# Altium footprint library 2019-10-18_23-59-06.PcbLib: 3 footprints
Each footprint in its own frame and in the unit in brackets; x right, y up, seen from the top. Pads: shape width x height; smd on the part's side, far side on the other; paste and mask are expansions set on the pad; w line width, h text height; cw(c..) or ccw(c..) is an arc to the next point about the centre after c.
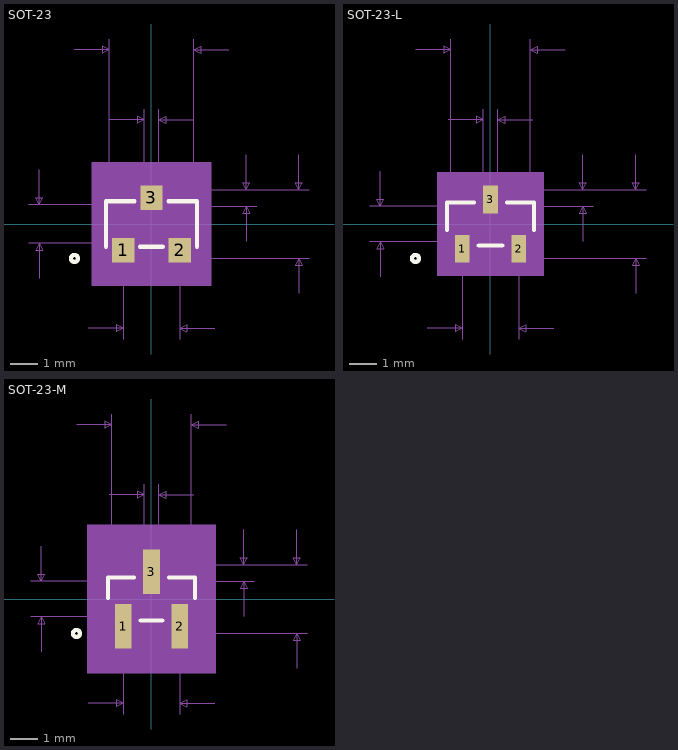
[diagram p0: the footprints below, top view; thin cyan lines are the x and y axes]

## SOT-23 [mil]
pads (3):
  rect 32x35 smd paste+0 mask+0: 1(-40.35,-37.2) 2(40.35,-37.2) 3(0,37.2)
Top Overlay:
  circle w6: c-110.04,-49.21 r5
  lines w6: -65.04,-32.56 -65.04,32.56 -24.14,32.56 ; -16.21,-32.56 16.21,-32.56 ; 24.14,32.56 65.04,32.56 65.04,-32.56
Mechanical 5:
  region: -85.04,88.21 85.04,88.21 85.04,-88.21 -85.04,-88.21
Mechanical 7:
  lines w1: -175.04,-27.56 0,-27.56 ; -175.04,27.56 0,27.56 ; -160.04,-77.56 -160.04,-27.56 ; -160.04,77.56 -160.04,27.56 ; -110.04,249.21 -60.04,249.21 ; -90.35,-149.21 -40.35,-149.21 ; -60.04,27.56 -60.04,264.21 ; -60.04,149.21 -10.04,149.21 ; -40.35,-164.21 -40.35,-49.21 ; -10.04,49.21 -10.04,164.21 ; 0,-49.21 225.04,-49.21 ; 0,25.2 150.04,25.2 ; 10.04,49.21 10.04,164.21 ; 40.35,-164.21 40.35,-49.21 ; 60.04,27.56 60.04,264.21 ; 60.04,149.21 10.04,149.21 ; 90.35,-149.21 40.35,-149.21 ; 110.04,249.21 60.04,249.21 ; 135.04,-24.8 135.04,25.2 ; 135.04,99.21 135.04,49.21 ; 150.04,49.21 0,49.21 225.04,49.21 ; 210.04,-99.21 210.04,-49.21 ; 210.04,99.21 210.04,49.21 ; -160.04,-27.56 -165.04,-37.56 -155.04,-37.56 -160.04,-27.56 ; -160.04,27.56 -165.04,37.56 -155.04,37.56 -160.04,27.56 ; -60.04,249.21 -70.04,254.21 -70.04,244.21 -60.04,249.21 ; -40.35,-149.21 -50.35,-144.21 -50.35,-154.21 -40.35,-149.21 ; -10.04,149.21 -20.04,154.21 -20.04,144.21 -10.04,149.21 ; 10.04,149.21 20.04,154.21 20.04,144.21 10.04,149.21 ; 40.35,-149.21 50.35,-144.21 50.35,-154.21 40.35,-149.21 ; 60.04,249.21 70.04,254.21 70.04,244.21 60.04,249.21 ; 135.04,25.2 130.04,15.2 140.04,15.2 135.04,25.2 ; 135.04,49.21 130.04,59.21 140.04,59.21 135.04,49.21 ; 210.04,-49.21 205.04,-59.21 215.04,-59.21 210.04,-49.21 ; 210.04,49.21 205.04,59.21 215.04,59.21 210.04,49.21
  text "Top Padstyle: RX22p08Y52p02D0T" at -375,-313.21 h50
  text "Bottom Padstyle: RX22p08Y52p02D0T" at -412.5,-388.21 h50
  text "Alt 1 Padstyle: RX32Y35D0T" at -325,-463.21 h50
  text "Alt 2 Padstyle: OX90Y60D30P" at -337.5,-538.21 h50
  text "0.098in/2.5mm" at 230.04,-12.5 h25
  text "0.024in/0.61mm" at 155.04,24.7 h25
  text "0.081in/2.05mm" at -87.5,-194.21 h25
  text "0.02in/0.51mm" at -81.25,169.21 h25
  text "0.12in/3.05mm" at -81.25,269.21 h25
  text "0.055in/1.4mm" at -342.54,-12.5 h25
Mechanical 13:
  circle w0: c-50.04,-17.56 r5
  lines w1: -60.04,-27.56 60.04,-27.56 60.04,27.56 -60.04,27.56 -60.04,-27.56 ; -50.39,-49.21 -50.39,-27.56 -30.32,-27.56 -30.32,-49.21 -50.39,-49.21 ; -10.04,27.56 10.04,27.56 10.04,49.21 -10.04,49.21 -10.04,27.56 ; 30.32,-49.21 30.32,-27.56 50.39,-27.56 50.39,-49.21 30.32,-49.21
Mechanical 15:
  region: -70.04,-37.56 -70.04,37.56 -20.04,37.56 -20.04,60 20,60 20.04,37.56 70.04,37.56 70.04,-37.56 60.39,-37.56 60.39,-60 -60.39,-60 -60.39,-37.56
  region: 60.04,-27.56 -60.04,-27.56 -60.04,27.56 60.04,27.56
  lines w6: -60.39,-60 -60.39,-37.56 -70.04,-37.56 -70.04,37.56 -20.04,37.56 -20,60 ; -60,-60 60,-60 ; -20.04,60 20.04,60 20.04,37.56 70.04,37.56 70.04,-37.56 60.39,-37.56 60.39,-60
3D body: height 10, standoff 0, extent 0,0 10,10

## SOT-23-L [mm]
pads (3):
  rect 0.53x1.01 smd paste+0 mask+0: 1(-1.025,-0.895) 2(1.025,-0.895) 3(0,0.895)
Top Overlay:
  circle w0.152: c-2.72,-1.25 r0.127
  lines w0.152: -1.577,-0.222 -1.577,0.777 -0.598,0.777 ; -0.427,-0.777 0.427,-0.777 ; 0.598,0.777 1.577,0.777 1.577,-0.222
Mechanical 5:
  region: -1.933,1.883 1.933,1.883 1.933,-1.883 -1.933,-1.883
Mechanical 7:
  lines w0.025: -4.371,-0.65 0,-0.65 ; -4.371,0.65 0,0.65 ; -3.99,-1.92 -3.99,-0.65 ; -3.99,1.92 -3.99,0.65 ; -2.72,6.33 -1.45,6.33 ; -2.295,-3.79 -1.025,-3.79 ; -1.525,3.79 -0.255,3.79 ; -1.45,0.65 -1.45,6.711 ; -1.025,-4.171 -1.025,-1.25 ; -0.255,1.25 -0.255,4.171 ; 0,-1.25 5.641,-1.25 ; 0,0.64 3.736,0.64 ; 0.255,1.25 0.255,4.171 ; 1.025,-4.171 1.025,-1.25 ; 1.45,0.65 1.45,6.711 ; 1.525,3.79 0.255,3.79 ; 2.295,-3.79 1.025,-3.79 ; 2.72,6.33 1.45,6.33 ; 3.355,-0.63 3.355,0.64 ; 3.355,2.52 3.355,1.25 ; 3.736,1.25 0,1.25 5.641,1.25 ; 5.26,-2.52 5.26,-1.25 ; 5.26,2.52 5.26,1.25 ; -3.99,-0.65 -4.117,-0.904 -3.863,-0.904 -3.99,-0.65 ; -3.99,0.65 -4.117,0.904 -3.863,0.904 -3.99,0.65 ; -1.45,6.33 -1.704,6.457 -1.704,6.203 -1.45,6.33 ; -1.025,-3.79 -1.279,-3.663 -1.279,-3.917 -1.025,-3.79 ; -0.255,3.79 -0.509,3.917 -0.509,3.663 -0.255,3.79 ; 0.255,3.79 0.509,3.917 0.509,3.663 0.255,3.79 ; 1.025,-3.79 1.279,-3.663 1.279,-3.917 1.025,-3.79 ; 1.45,6.33 1.704,6.457 1.704,6.203 1.45,6.33 ; 3.355,0.64 3.228,0.386 3.482,0.386 3.355,0.64 ; 3.355,1.25 3.228,1.504 3.482,1.504 3.355,1.25 ; 5.26,-1.25 5.133,-1.504 5.387,-1.504 5.26,-1.25 ; 5.26,1.25 5.133,1.504 5.387,1.504 5.26,1.25
  text "Top Padstyle: r53_101" at -6.667,-7.75 h1.27
  text "Bottom Padstyle: r53_101" at -7.62,-9.655 h1.27
  text "Alt 1 Padstyle: b152_229h76" at -8.572,-11.56 h1.27
  text "Alt 2 Padstyle: b229_152h76" at -8.572,-13.465 h1.27
  text "0.098in/2.5mm" at 5.768,-0.318 h0.64
  text "0.024in/0.61mm" at 3.863,0.627 h0.64
  text "0.081in/2.05mm" at -2.222,-4.933 h0.64
  text "0.02in/0.51mm" at -2.064,4.298 h0.64
  text "0.114in/2.9mm" at -2.064,6.838 h0.64
  text "0.051in/1.3mm" at -8.625,-0.318 h0.64
Mechanical 13:
  circle w0: c-1.196,-0.396 r0.127
  lines w0.025: -1.45,-0.65 1.45,-0.65 1.45,0.65 -1.45,0.65 -1.45,-0.65 ; -1.28,-1.25 -1.28,-0.65 -0.77,-0.65 -0.77,-1.25 -1.28,-1.25 ; -0.255,0.65 0.255,0.65 0.255,1.25 -0.255,1.25 -0.255,0.65 ; 0.77,-1.25 0.77,-0.65 1.28,-0.65 1.28,-1.25 0.77,-1.25
Mechanical 15:
  region: -1.552,-0.752 -1.552,0.752 -0.367,0.752 -0.367,1.502 0.367,1.502 0.367,0.752 1.552,0.752 1.552,-0.752 1.392,-0.752 1.392,-1.502 -1.392,-1.502 -1.392,-0.752
  region: 1.45,-0.65 -1.45,-0.65 -1.45,0.65 1.45,0.65
  lines w0.152: -1.552,-0.752 -1.552,0.752 -0.367,0.752 -0.367,1.502 0.367,1.502 0.367,0.752 1.552,0.752 1.552,-0.752 1.392,-0.752 1.392,-1.502 -1.392,-1.502 -1.392,-0.752 -1.552,-0.752
3D body: height 0.25, standoff 0, extent 0,0 0.254,0.254

## SOT-23-M [mm]
pads (3):
  rect 0.61x1.61 smd paste+0 mask+0: 1(-1.025,-0.995) 2(1.025,-0.995) 3(0,0.995)
Top Overlay:
  circle w0.152: c-2.72,-1.25 r0.127
  lines w0.152: -1.577,0.033 -1.577,0.777 -0.638,0.777 ; -0.387,-0.777 0.387,-0.777 ; 0.638,0.777 1.577,0.777 1.577,0.033
Mechanical 5:
  region: -2.339,2.689 2.339,2.689 2.339,-2.689 -2.339,-2.689
Mechanical 7:
  lines w0.025: -4.371,-0.65 0,-0.65 ; -4.371,0.65 0,0.65 ; -3.99,-1.92 -3.99,-0.65 ; -3.99,1.92 -3.99,0.65 ; -2.72,6.33 -1.45,6.33 ; -2.295,-3.79 -1.025,-3.79 ; -1.525,3.79 -0.255,3.79 ; -1.45,0.65 -1.45,6.711 ; -1.025,-4.171 -1.025,-1.25 ; -0.255,1.25 -0.255,4.171 ; 0,-1.25 5.641,-1.25 ; 0,0.64 3.736,0.64 ; 0.255,1.25 0.255,4.171 ; 1.025,-4.171 1.025,-1.25 ; 1.45,0.65 1.45,6.711 ; 1.525,3.79 0.255,3.79 ; 2.295,-3.79 1.025,-3.79 ; 2.72,6.33 1.45,6.33 ; 3.355,-0.63 3.355,0.64 ; 3.355,2.52 3.355,1.25 ; 3.736,1.25 0,1.25 5.641,1.25 ; 5.26,-2.52 5.26,-1.25 ; 5.26,2.52 5.26,1.25 ; -3.99,-0.65 -4.117,-0.904 -3.863,-0.904 -3.99,-0.65 ; -3.99,0.65 -4.117,0.904 -3.863,0.904 -3.99,0.65 ; -1.45,6.33 -1.704,6.457 -1.704,6.203 -1.45,6.33 ; -1.025,-3.79 -1.279,-3.663 -1.279,-3.917 -1.025,-3.79 ; -0.255,3.79 -0.509,3.917 -0.509,3.663 -0.255,3.79 ; 0.255,3.79 0.509,3.917 0.509,3.663 0.255,3.79 ; 1.025,-3.79 1.279,-3.663 1.279,-3.917 1.025,-3.79 ; 1.45,6.33 1.704,6.457 1.704,6.203 1.45,6.33 ; 3.355,0.64 3.228,0.386 3.482,0.386 3.355,0.64 ; 3.355,1.25 3.228,1.504 3.482,1.504 3.355,1.25 ; 5.26,-1.25 5.133,-1.504 5.387,-1.504 5.26,-1.25 ; 5.26,1.25 5.133,1.504 5.387,1.504 5.26,1.25
  text "Top Padstyle: r61_161" at -6.667,-8.15 h1.27
  text "Bottom Padstyle: r61_161" at -7.62,-10.055 h1.27
  text "Alt 1 Padstyle: b152_229h76" at -8.572,-11.96 h1.27
  text "Alt 2 Padstyle: b229_152h76" at -8.572,-13.865 h1.27
  text "0.098in/2.5mm" at 5.768,-0.318 h0.64
  text "0.024in/0.61mm" at 3.863,0.627 h0.64
  text "0.081in/2.05mm" at -2.222,-4.933 h0.64
  text "0.02in/0.51mm" at -2.064,4.298 h0.64
  text "0.114in/2.9mm" at -2.064,6.838 h0.64
  text "0.051in/1.3mm" at -8.625,-0.318 h0.64
Mechanical 13:
  circle w0: c-1.196,-0.396 r0.127
  lines w0.025: -1.45,-0.65 1.45,-0.65 1.45,0.65 -1.45,0.65 -1.45,-0.65 ; -1.28,-1.25 -1.28,-0.65 -0.77,-0.65 -0.77,-1.25 -1.28,-1.25 ; -0.255,0.65 0.255,0.65 0.255,1.25 -0.255,1.25 -0.255,0.65 ; 0.77,-1.25 0.77,-0.65 1.28,-0.65 1.28,-1.25 0.77,-1.25
Mechanical 15:
  region: -1.958,-1.158 -1.958,1.158 -0.813,1.158 -0.813,2.308 0.813,2.308 0.813,1.158 1.958,1.158 1.958,-1.158 1.838,-1.158 1.838,-2.308 -1.838,-2.308 -1.838,-1.158
  region: 1.45,-0.65 -1.45,-0.65 -1.45,0.65 1.45,0.65
  lines w0.152: -1.958,-1.158 -1.958,1.158 -0.813,1.158 -0.813,2.308 0.813,2.308 0.813,1.158 1.958,1.158 1.958,-1.158 1.838,-1.158 1.838,-2.308 -1.838,-2.308 -1.838,-1.158 -1.958,-1.158
3D body: height 0.25, standoff 0, extent 0,0 0.254,0.254